# Altium integrated library AD8572ARZ.IntLib: 1 symbol
Pins are listed as number, name and electrical type; pins without a type are passive.

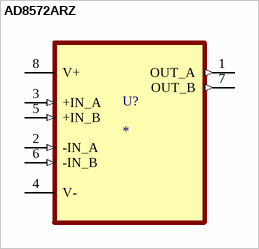
[diagram p0: symbol AD8572ARZ]

## AD8572ARZ
designator U?
Zero-Drift, Single-Supply, RRIO Dual Op Amp; MF: Analog Devices; MP: AD8572ARZ; SnapEDA_Link: https://www.snapeda.com/parts/AD8572ARZ/Analog+Devices/view-part/?ref=snap; Package: SOIC-8 Analog Devices; Value: *; Check_prices: https://www.snapeda.com/parts/AD8572ARZ/Analog+Devices/view-part/?ref=eda
footprint SOIC127P600X175-8N
pins: 1 OUT_A (out), 2 -IN_A (in), 3 +IN_A (in), 4 V- (power), 5 +IN_B (in), 6 -IN_B (in), 7 OUT_B (out), 8 V+ (power)